# Altium schematic symbol library 2019-12-02_22-18-57.SchLib: 2 symbols
Pins are listed as number, name and electrical type; pins without a type are passive.

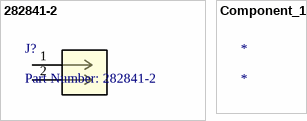
[diagram p0: symbols 282841-2 to Component_1]

## 282841-2
designator J?, comment Part Number: 282841-2
No Description Available; Vendor: TE Connectivity; Built_By: EMA_UL_Team; Manufacturer_Part_Number: 282841-2; Copyright: Copyright (C) 2016 Accelerated Designs. All rights reserved; RefDes: RefDes; Type: DEV; Value: Value
footprint CONN_282841-2
pins: 1, 2

## Component_1
designator *